# Altium footprint library SnapEDApcb.PcbLib: 1 footprints
Each footprint in its own frame and in the unit in brackets; x right, y up, seen from the top. Pads: shape width x height; smd on the part's side, far side on the other; paste and mask are expansions set on the pad; w line width, h text height; cw(c..) or ccw(c..) is an arc to the next point about the centre after c.
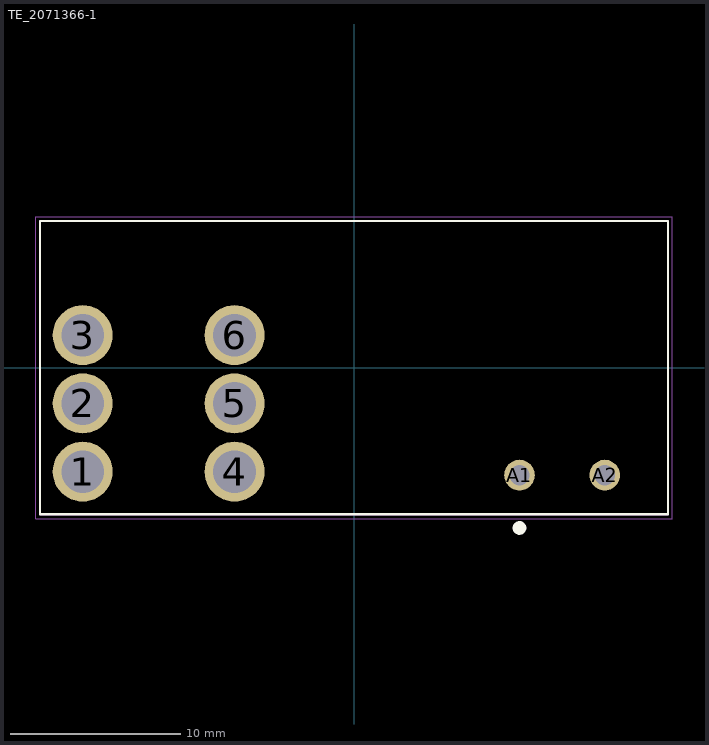
[diagram p0: the footprint, top view; thin cyan lines are the x and y axes]

## TE_2071366-1 [mm]
pads (8):
  round 3.516 hole 2.5: 1(-15.9,-6.1) 2(-15.9,-2.1) 3(-15.9,1.9) 4(-7,-6.1) 5(-7,-2.1) 6(-7,1.9)
  round 1.8 hole 1.2: A1(9.7,-6.3) A2(14.7,-6.3)
Top Overlay:
  circle w0.4: c9.7,-9.4 r0.2
  lines w0.127: -18.4,-8.6 -18.4,8.6 18.4,8.6 18.4,-8.6 -18.4,-8.6
Mechanical 13:
  lines w0.127: -18.4,-8.6 -18.4,8.6 18.4,8.6 18.4,-8.6 -18.4,-8.6
Mechanical 15:
  lines w0.05: -18.65,-8.85 18.65,-8.85 18.65,8.85 -18.65,8.85 -18.65,-8.85